# EAGLE library part A-505 (library led-seg)
ParaLight A-505x Five digits 7seg display Common anode. 59x19 mm place. 12.70mm (500 mil) digit height 2009 Draw by Ivan A-R <http://tuxotronic.org>. License CC-BY-SA 3.0 <http://creativecommons.org/licenses/by-sa/3.0/>
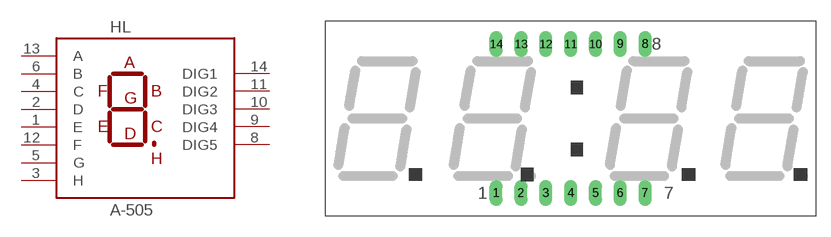
[diagram p0: symbol with the pads of C/A-505; footprint C/A-505]

Designator prefix HL

## A-505E (COLOR: Hi.effi Red; V-VMAX: 2.1/2.8), A-505G (COLOR: Green; V-VMAX: 2.1/2.8), A-505H (COLOR: Red; V-VMAX: 2.3/2.8), A-505SR (COLOR: SuperRed; V-VMAX: 1.8/2.2), A-505Y (COLOR: Yellow; V-VMAX: 2.1/2.8)  [C/A-505]
1  E  in
2  D  in
3  H  in
4  C  in
5  G  in
6  B  in
8  DIG5  in
9  DIG4  in
10  DIG3  in
11  DIG2  in
12  F  in
13  A  in
14  DIG1  in

## Footprint C/A-505 (pad centres in mm)
Five digits 7seg LED display
drill 0.8 long: 1 -7.62,-7.62; 2 -5.08,-7.62; 3 -2.54,-7.62; 4 0,-7.62; 5 2.54,-7.62; 6 5.08,-7.62; 7 7.62,-7.62; 8 7.62,7.62; 9 5.08,7.62; 10 2.54,7.62; 11 0,7.62; 12 -2.54,7.62; 13 -5.08,7.62; 14 -7.62,7.62